# Altium footprint library DIod.PcbLib: 13 footprints
Each footprint in its own frame and in the unit in brackets; x right, y up, seen from the top. Pads: shape width x height; smd on the part's side, far side on the other; paste and mask are expansions set on the pad; w line width, h text height; cw(c..) or ccw(c..) is an arc to the next point about the centre after c.
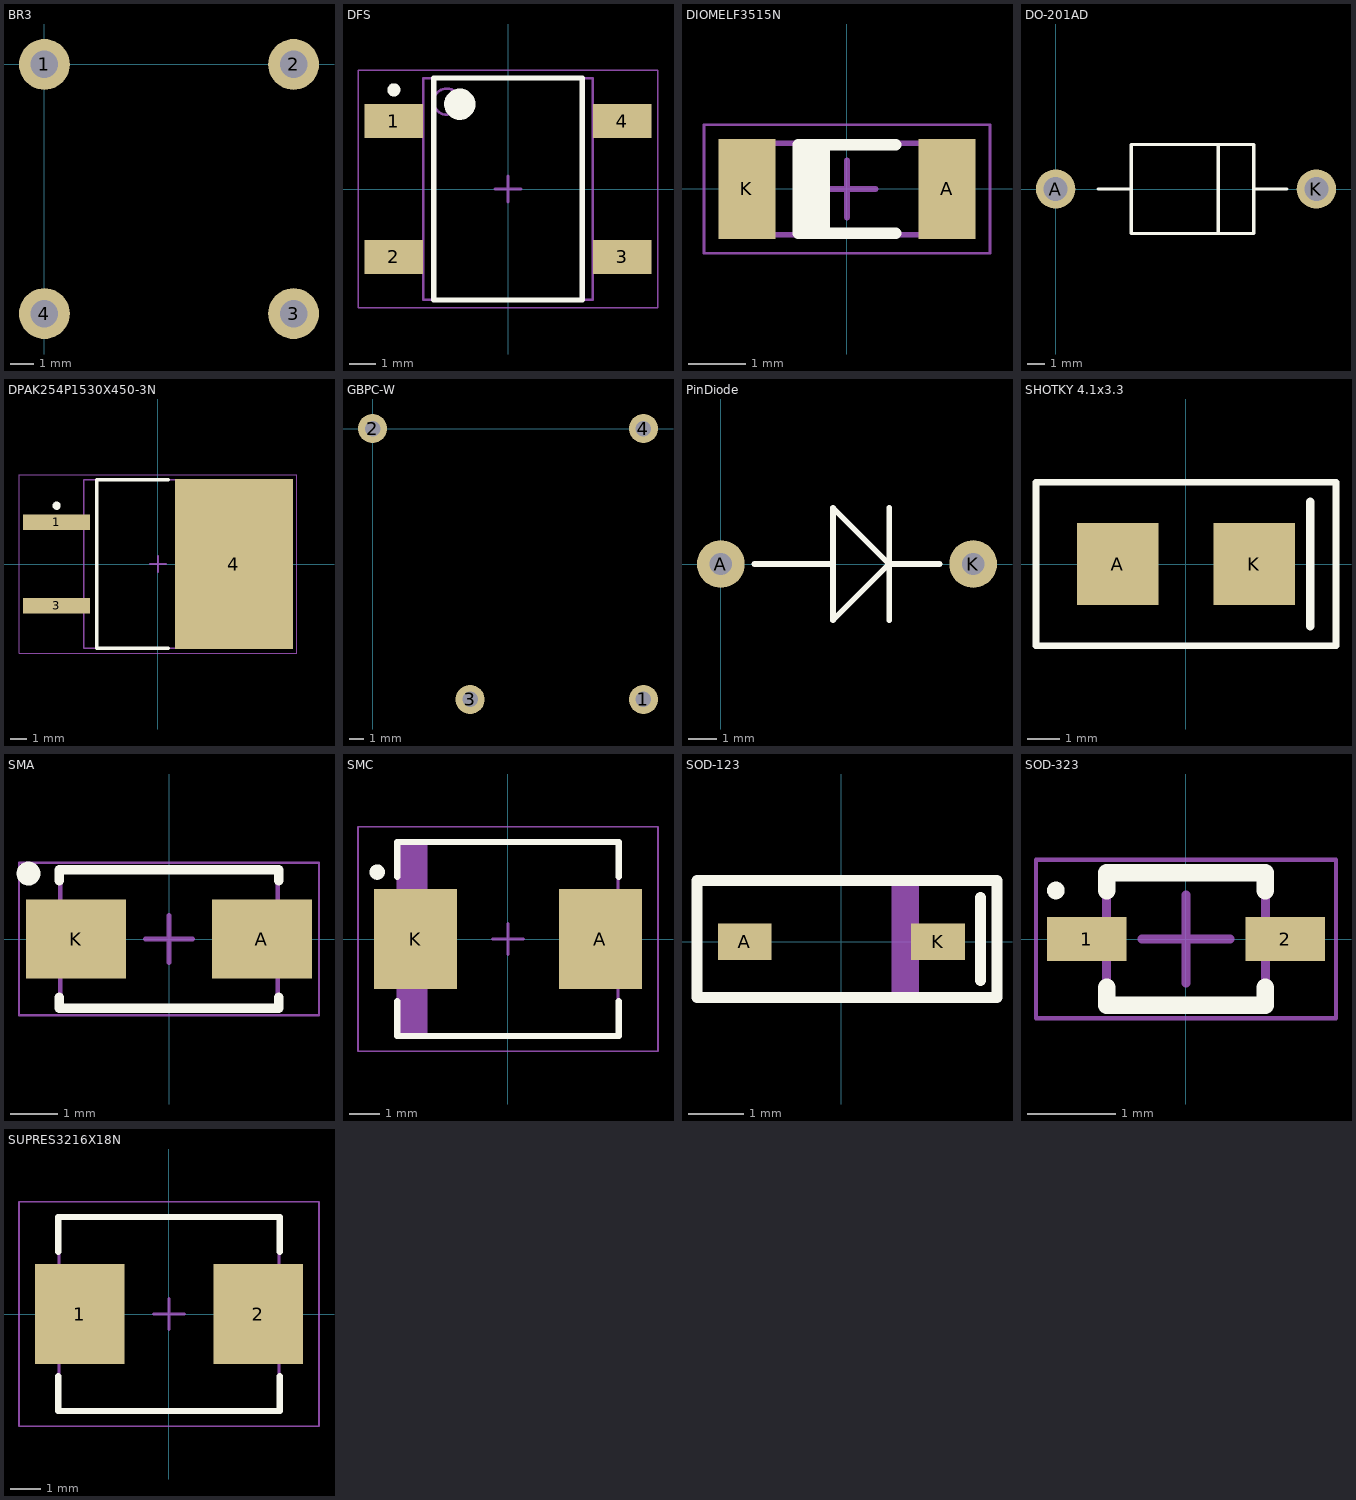
[diagram p0: the footprints below, top view; thin cyan lines are the x and y axes]

## BR3 [mm] "Diode Bridge"
height 10
pads (4):
  round 2.2 hole 1.2: 1(0,0) 2(10.8,0) 3(10.8,-10.8) 4(0,-10.8)
3D body "BR3.stp": height 8, standoff -4, extent -2.6,-13.4 13.4,2.6

## DFS [mm] "DFS, 4-Leads, Body 8,32x6,35mm, Pitch 5,20mm, IPC Medium Density"
height 2.6
pads (4):
  rect 2.25x1.3 smd: 1(-4.375,2.6) 2(-4.375,-2.6) 3(4.375,-2.6) 4(4.375,2.6)
Top Overlay:
  circle w0.25: c-4.375,3.8 r0.125
  circle w0.6: c-1.85,3.25 r0.3
  lines w0.2: -2.85,-4.25 -2.85,4.25 2.85,4.25 2.85,-4.25 -2.85,-4.25
Mechanical 13:
  circle w0.1: c-2.35,3.35 r0.5
  lines w0.1: -3.25,-4.25 -3.25,4.25 3.25,4.25 3.25,-4.25 -3.25,-4.25
Mechanical 15:
  lines w0.05: -5.75,-4.55 -5.75,4.55 5.75,4.55 5.75,-4.55 -5.75,-4.55
  lines w0.1: -0.5,0 0.5,0 ; 0,-0.5 0,0.5
3D body "SOP520P1010X260-4N.step": height 2.6, standoff 0, extent -5.025,-4.25 5.025,4.25

## DIOMELF3515N [mm] "MELF Diode, 2-Leads, Body 3,50x1,53mm, IPC Medium Density"
height 1.6
pads (2):
  rect 1x1.75 smd: A(1.75,0) K(-1.75,0)
Top Overlay:
  rectangle: -0.85,-0.775 -0.3,0.775
  lines w0.2: 0.85,-0.775 -0.85,-0.775 -0.85,0.775 0.85,0.775
Mechanical 13:
  lines w0.1: -1.85,-0.8 -1.85,0.8 1.85,0.8 1.85,-0.8 -1.85,-0.8
Mechanical 15:
  lines w0.05: -2.5,-1.125 -2.5,1.125 2.5,1.125 2.5,-1.125 -2.5,-1.125
  lines w0.1: -0.5,0 0.5,0 ; 0,-0.5 0,0.5
3D body "DIOMELF3515N.step": height 1.53, standoff 0.01, extent -1.75,-0.761 1.75,0.761

## DO-201AD [mm]
pads (2):
  round 2.3 hole 1.4: A(0,0) K(15.24,0)
Top Overlay:
  lines w0.2: 2.5,0 4.425,0 ; 9.5,-2.5 9.5,2.5 ; 11.575,0 13.5,0 ; 4.425,0 4.425,-2.6 11.575,-2.6 11.575,2.6 4.425,2.6 4.425,0
3D body: height 5.33, standoff 0.05, extent 11.5,-2.645 12.5,2.645
3D body: height 5.33, standoff 0.05, extent 3,-2.645 11.5,2.645

## DPAK254P1530X450-3N [mm] "D2-PAK, 3-Pads, Body 8,60x8,51mm (max), IPC Medium Density"
height 4.5
pads (3):
  rect 4.1x0.95 smd: 1(-6.2,2.54) 3(-6.2,-2.54)
  rect 7.2x10.4 smd: 4(4.65,0)
Top Overlay:
  circle w0.25: c-6.2,3.565 r0.125
  lines w0.2: 0.65,-5.15 -3.75,-5.15 -3.75,5.15 0.65,5.15
Mechanical 13:
  lines w0.1: -4.55,-5.15 6.45,-5.15 6.45,5.15 -4.55,5.15 -4.55,-5.15
Mechanical 15:
  lines w0.05: -8.5,-5.45 8.5,-5.45 8.5,5.45 -8.5,5.45 -8.5,-5.45
  lines w0.1: -0.5,0 0.5,0 ; 0,-0.5 0,0.5
3D body "DPAK254P1530X450-3N.step": height 4.5, standoff 0, extent -7.3,-5.15 8,5.15

## GBPC-W [mm]
pads (4):
  round 2 hole 1.07: 1(18.6,-18.6) 2(0,0) 3(6.7,-18.6) 4(18.6,0)
3D body "GBPC-W.stp": height 9.87, standoff -4, extent -6,-24.6 22.8,4.2

## PinDiode [mm] "Simple pin diode with A and K designators"
pads (2):
  round 1.7 hole 0.8: A(0,0) K(9,0)
Top Overlay:
  lines w0.2: 1.2,0 4,0 ; 6,-2 6,2 ; 7.8,0 6,0 ; 4,0 4,2 6,0 ; 4,0 4,-2 6,0
3D body: height 1.8, standoff 1, extent 0,-0.399 2,0.399
3D body: height 1.8, standoff 1, extent 7,-0.399 9,0.399
3D body: height 1.4, standoff 0, extent 8.603,-0.399 9.4,0.399
3D body: height 1.4, standoff 0, extent -0.397,-0.399 0.4,0.399
3D body: height 2.79, standoff 0, extent 2,-1.397 6.5,1.397
3D body: height 2.79, standoff 0, extent 6.5,-1.397 7,1.397
3D body: height 1.8, standoff 1, extent -0.396,-0.398 0.4,0.398
3D body: height 1.8, standoff 1, extent 8.604,-0.398 9.4,0.398

## SHOTKY 4.1x3.3 [mm]
pads (2):
  rect 2.5x2.5 smd: A(-2.1,0) K(2.1,0)
Top Overlay:
  lines w0.2: -4.6,-2.5 4.6,-2.5 4.6,2.5 -4.6,2.5 -4.6,0 -4.6,-2.5
  lines w0.254: 3.81,-1.905 3.81,1.905

## SMA [mm] "SODFL, 2-Leads, Body 2,60x5,21mm, IPC Medium Density"
height 2.2
pads (2):
  rect 2.1x1.65 smd: A(1.95,0) K(-1.95,0)
Top Overlay:
  circle w0.25: c-2.95,1.375 r0.125
  lines w0.2: -2.3,-1.225 -2.3,-1.45 2.3,-1.45 2.3,-1.225 ; -2.3,1.225 -2.3,1.45 2.3,1.45 2.3,1.225
Mechanical 13:
  lines w0.1: -2.285,-1.46 2.285,-1.46 2.285,1.46 -2.285,1.46 -2.285,-1.46
Mechanical 15:
  lines w0.05: -3.15,-1.6 3.15,-1.6 3.15,1.6 -3.15,1.6 -3.15,-1.6
  lines w0.1: -0.5,0 0.5,0 ; 0,-0.5 0,0.5
3D body "SMA.step": height 2.2, standoff 0, extent -2.605,-1.46 2.605,1.46

## SMC [mm] "Molded Diode, 2-Leads, Body 6,88x5,90mm, IPC Low Density"
height 2.45
pads (2):
  rect 2.7x3.25 smd: A(3,0) K(-3,0)
Top Overlay:
  circle w0.25: c-4.25,2.175 r0.125
  lines w0.2: -3.6,-2.025 -3.6,-3.15 3.6,-3.15 3.6,-2.025 ; -3.6,2.025 -3.6,3.15 3.6,3.15 3.6,2.025
Mechanical 13:
  rectangle: -3.575,-3.125 -2.613,3.125
  lines w0.1: -3.575,-3.125 -3.575,3.125 3.575,3.125 3.575,-3.125 -3.575,-3.125
Mechanical 15:
  lines w0.05: -4.875,-3.65 -4.875,3.65 4.875,3.65 4.875,-3.65 -4.875,-3.65
  lines w0.1: -0.5,0 0.5,0 ; 0,-0.5 0,0.5
3D body: height 2.45, standoff 0, extent -3.575,-3.125 3.575,3.125

## SOD-123 [mm]
pads (2):
  rect 0.97x0.65 smd: A(-1.74,0) K(1.74,0)
Top Overlay:
  lines w0.2: 2.5,-0.7 2.5,0.8 ; -2.6,-1 -2.6,0.3 -2.6,1.1 2.8,1.1 2.8,-1 -2.6,-1
Mechanical 13:
  rectangle: 0.9,-0.9 1.4,1
3D body: height 1.36, standoff 0.1, extent -1.35,-0.75 1.35,0.8

## SOD-323 [mm]
height 1.17
pads (2):
  rect 0.9x0.5 smd: 1(-1.125,0) 2(1.125,0)
Top Overlay:
  circle w0.1: c-1.475,0.55 r0.05
  lines w0.2: -0.9,-0.55 -0.9,-0.75 0.9,-0.75 0.9,-0.55 ; -0.9,0.55 -0.9,0.75 0.9,0.75 0.9,0.55
Mechanical 13:
  lines w0.1: -0.9,-0.725 0.9,-0.725 0.9,0.725 -0.9,0.725 -0.9,-0.725
Mechanical 15:
  lines w0.05: -1.7,-0.9 1.7,-0.9 1.7,0.9 -1.7,0.9 -1.7,-0.9
  lines w0.1: -0.5,0 0.5,0 ; 0,-0.5 0,0.5
3D body "SOD-323.step": height 1.17, standoff 0, extent -1.25,-0.725 1.25,0.725

## SUPRES3216X18N [mm]
height 2.65
pads (2):
  rect 2.9x3.25 smd: 1(-2.9,0) 2(2.9,0)
Top Overlay:
  lines w0.2: -3.6,-2.025 -3.6,-3.15 3.6,-3.15 3.6,-2.025 ; -3.6,2.025 -3.6,3.15 3.6,3.15 3.6,2.025
Mechanical 13:
  lines w0.1: -3.575,-3.125 3.575,-3.125 3.575,3.125 -3.575,3.125 -3.575,-3.125
Mechanical 15:
  lines w0.05: -4.875,-3.65 4.875,-3.65 4.875,3.65 -4.875,3.65 -4.875,-3.65
  lines w0.1: -0.5,0 0.5,0 ; 0,-0.5 0,0.5
3D body: height 2.65, standoff 0, extent -3.575,-3.125 3.575,3.125